# Altium footprint library FUSE-3549-2.PcbLib: 1 footprints
Each footprint in its own frame and in the unit in brackets; x right, y up, seen from the top. Pads: shape width x height; smd on the part's side, far side on the other; paste and mask are expansions set on the pad; w line width, h text height; cw(c..) or ccw(c..) is an arc to the next point about the centre after c.
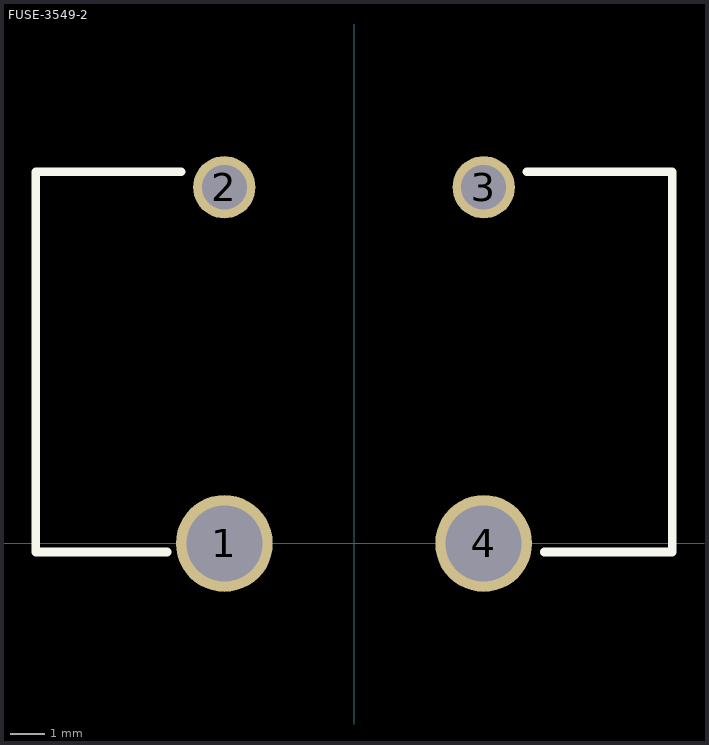
[diagram p0: the footprint, top view; thin cyan lines are the x and y axes]

## FUSE-3549-2 [mm] "Keystone Miniblade FUSE_3549-2"
pads (4):
  round 2.8 hole 2.2: 1(-3.75,0) 4(3.75,0)
  round 1.8 hole 1.3: 2(-3.75,10.3) 3(3.75,10.3)
Top Overlay:
  lines w0.254: -5.4,-0.25 -9.2,-0.25 -9.2,10.75 -5,10.75 ; 4.999,10.75 9.2,10.75 9.2,-0.25 5.5,-0.25
3D body "keystone-PN3549-2.STEP": height 5.84, standoff -3.6, extent -9.135,-0.019 8.899,10.446